# EAGLE library part ARDUINO-NANO (library SaintGimp)
Arduino Nano
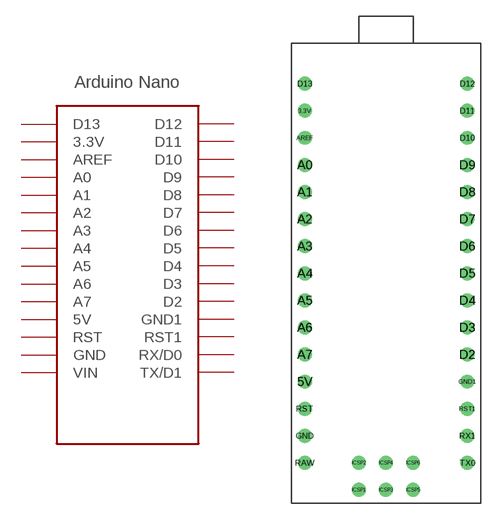
[diagram p13: symbol with the pads of ARDUINO-NANO; footprint ARDUINO-NANO]

Designator prefix -

## ARDUINO-NANO  [ARDUINO-NANO]
3.3V  3.3V
5V  5V
A0  A0
A1  A1
A2  A2
A3  A3
A4  A4
A5  A5
A6  A6
A7  A7
AREF  AREF
D2  D2
D3  D3
D4  D4
D5  D5
D6  D6
D7  D7
D8  D8
D9  D9
D10  D10
D11  D11
D12  D12
D13  D13
GND  GND
GND1  GND1
ICSP1  ICSP1
ICSP2  ICSP2
ICSP3  ICSP3
ICSP4  ICSP4
ICSP5  ICSP5
ICSP6  ICSP6
RAW  VIN
RST  RST
RST1  RST1
RX1  RX/D0
TX0  TX/D1

## Footprint ARDUINO-NANO (pad centres in mm)
drill 0.8: 3.3V -7.62,15.24; 5V -7.62,-10.16; A0 -7.62,10.16; A1 -7.62,7.62; A2 -7.62,5.08; A3 -7.62,2.54; A4 -7.62,0; A5 -7.62,-2.54; A6 -7.62,-5.08; A7 -7.62,-7.62; AREF -7.62,12.7; D2 7.62,-7.62; D3 7.62,-5.08; D4 7.62,-2.54; D5 7.62,0; D6 7.62,2.54; D7 7.62,5.08; D8 7.62,7.62; D9 7.62,10.16; D10 7.62,12.7; D11 7.62,15.24; D12 7.62,17.78; D13 -7.62,17.78; GND -7.62,-15.24; GND1 7.62,-10.16; ICSP1 -2.54,-20.32; ICSP2 -2.54,-17.78; ICSP3 0,-20.32; ICSP4 0,-17.78; ICSP5 2.54,-20.32; ICSP6 2.54,-17.78; RAW -7.62,-17.78; RST -7.62,-12.7; RST1 7.62,-12.7; RX1 7.62,-15.24; TX0 7.62,-17.78